# Altium footprint library NTC Thermistors.PcbLib: 5 footprints
Each footprint in its own frame and in the unit in brackets; x right, y up, seen from the top. Pads: shape width x height; smd on the part's side, far side on the other; paste and mask are expansions set on the pad; w line width, h text height; cw(c..) or ccw(c..) is an arc to the next point about the centre after c.
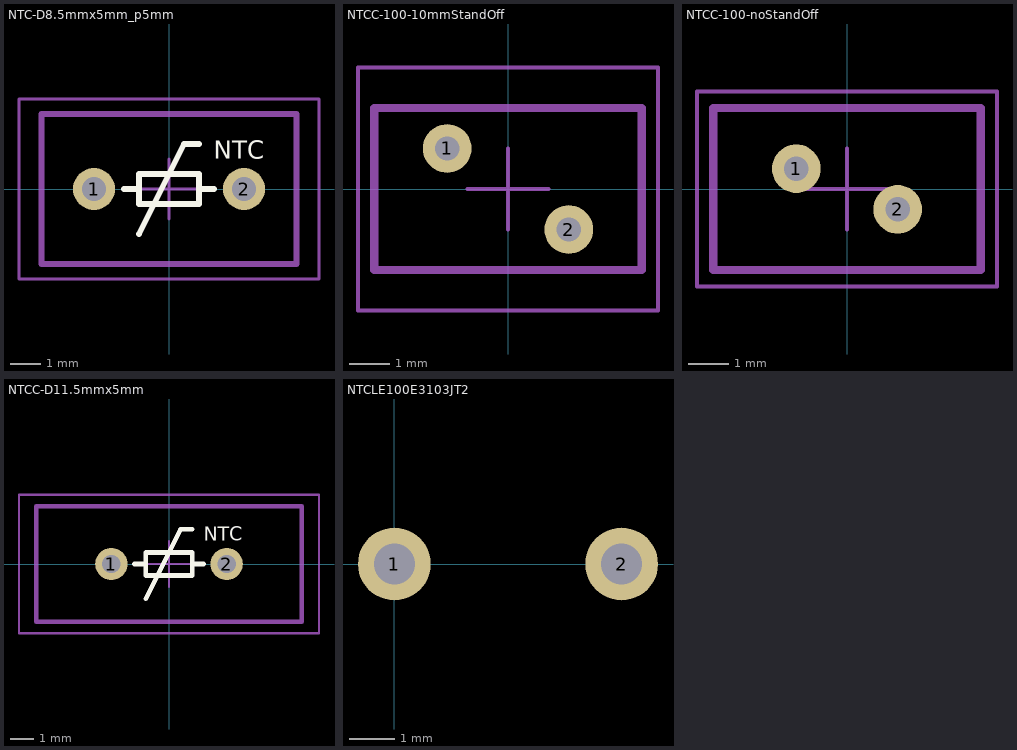
[diagram p0: the footprints below, top view; thin cyan lines are the x and y axes]

## NTC-D8.5mmx5mm_p5mm [mm] "NTC thermistor, D=8.5mm, W=5mm pitch 5mm"
height 13
pads (2):
  round 1.4 hole 0.8: 1(-2.5,0) 2(2.5,0)
Top Overlay:
  lines w0.2: -1.5,0 -1,0 ; -1,-1.5 0.5,1.5 1,1.5 ; 1,0 1.5,0 ; -1,-0.5 1,-0.5 1,0.5 -1,0.5 -1,-0.5
  text "NTC" at 1.5,1 h0.6
3D Top:
  lines w0.2: -4.25,-2.5 -4.25,2.5 4.25,2.5 4.25,-2.5 -4.25,-2.5
Courtyard Top:
  lines w0.1: -1,0 1,0 ; 0,-1 0,1 ; -5,-3 -5,3 5,3 5,-3 -5,-3
3D body: height 10.75, standoff 2.25, extent -4.25,-2.5 4.25,2.5
3D body: height 4, standoff -2, extent 2.054,-0.449 2.95,0.449
3D body: height 4, standoff -2, extent -2.946,-0.449 -2.05,0.449

## NTCC-100-10mmStandOff [mm] "NTCC-100R SR PASSIVES, NTC thermistor; 100O; THT; 3000K; -55÷125°C; 500mW; Ø6.5mm"
height 15
pads (2):
  round 1.2 hole 0.6: 1(-1.5,1) 2(1.5,-1)
3D Top:
  lines w0.2: -3.3,-2 -3.3,2 3.3,2 3.3,-2 -3.3,-2
Courtyard Top:
  lines w0.1: -1,0 1,0 ; 0,-1 0,1 ; -3.7,-3 3.7,-3 3.7,3 -3.7,3 -3.7,-3
3D body: height 13, standoff -2, extent -1.947,0.551 -1.05,1.449
3D body: height 13, standoff -2, extent 1.054,-1.449 1.95,-0.551
3D body: height 18.25, standoff 11.75, extent -3.25,-2 3.25,2

## NTCC-100-noStandOff [mm] "NTCC-100R SR PASSIVES, NTC thermistor; 100O; THT; 3000K; -55÷125°C; 500mW; Ø6.5mm"
height 7
pads (2):
  round 1.2 hole 0.6: 1(-1.25,0.5) 2(1.25,-0.5)
3D Top:
  lines w0.2: -3.3,-2 -3.3,2 3.3,2 3.3,-2 -3.3,-2
Courtyard Top:
  lines w0.1: -1,0 1,0 ; 0,-1 0,1 ; -3.7,-2.4 3.7,-2.4 3.7,2.4 -3.7,2.4 -3.7,-2.4
3D body: height 4, standoff -2, extent -1.696,0.051 -0.8,0.949
3D body: height 4, standoff -2, extent 0.804,-0.949 1.7,-0.051
3D body: height 7.25, standoff 0.75, extent -3.25,-2 3.25,2

## NTCC-D11.5mmx5mm [mm] "NTC thermistor, D=11.5mm, W=5mm pitch 5mm"
height 12
pads (2):
  round 1.4 hole 0.8: 1(-2.5,0) 2(2.5,0)
Top Overlay:
  lines w0.2: -1.5,0 -1,0 ; -1,-1.5 0.5,1.5 1,1.5 ; 1,0 1.5,0 ; -1,-0.5 -1,0.5 1,0.5 1,-0.5 -1,-0.5
  text "NTC" at 1.5,1 h0.6
3D Top:
  lines w0.2: -5.75,-2.5 5.75,-2.5 5.75,2.5 -5.75,2.5 -5.75,-2.5
Courtyard Top:
  lines w0.1: -1,0 1,0 ; 0,-1 0,1 ; -6.5,-3 6.5,-3 6.5,3 -6.5,3 -6.5,-3
3D body: height 4, standoff -2, extent -2.946,-0.449 -2.05,0.449
3D body: height 4, standoff -2, extent 2.054,-0.449 2.95,0.449
3D body: height 13.75, standoff 2.25, extent -5.75,-2.5 5.75,2.5

## NTCLE100E3103JT2 [mm] "10k NTC 3977K, for LiIon batteries, for example"
pads (2):
  round 1.6 hole 0.9: 1(0,0) 2(5,0)